# EAGLE library part 2X6PINHEAD (library 2X4PINHEAD)
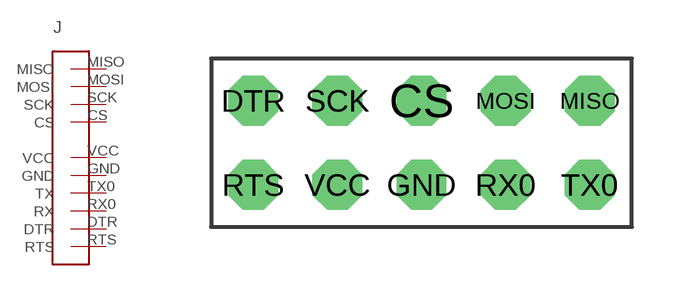
[diagram p1: symbol with the pads of 2X6PINHEAD; footprint 2X6PINHEAD]

Designator prefix J

## 2X6PINHEAD  [2X6PINHEAD]
CS  CS
DTR  DTR
GND  GND
MISO  MISO
MOSI  MOSI
RTS  RTS
RX0  RX
SCK  SCK
TX0  TX
VCC  VCC

## Footprint 2X6PINHEAD (pad centres in mm)
drill 1 octagon: CS 6.35,3.81; DTR 1.27,3.81; GND 6.35,1.27; MISO 11.43,3.81; MOSI 8.89,3.81; RTS 1.27,1.27; RX0 8.89,1.27; SCK 3.81,3.81; TX0 11.43,1.27; VCC 3.81,1.27